# Altium footprint library Nexperia.PcbLib: 4 footprints
Each footprint in its own frame and in the unit in brackets; x right, y up, seen from the top. Pads: shape width x height; smd on the part's side, far side on the other; paste and mask are expansions set on the pad; w line width, h text height; cw(c..) or ccw(c..) is an arc to the next point about the centre after c.
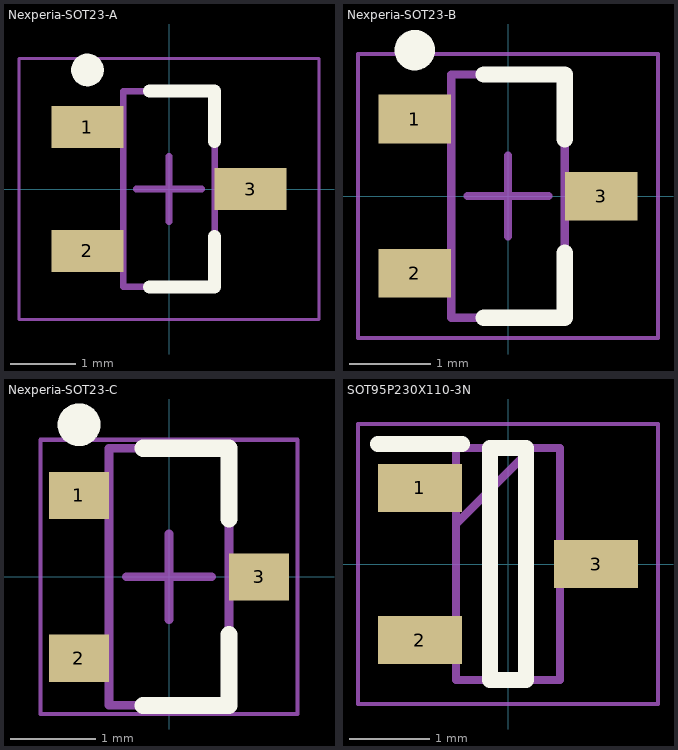
[diagram p0: the footprints below, top view; thin cyan lines are the x and y axes]

## Nexperia-SOT23-A [mm] "SOT23, 3-Leads, Body 2.90x2.30mm, Pitch 0.95mm, IPC Low Density"
height 1.1
pads (3):
  rect 1.1x0.65 smd: 1(-1.25,0.95) 2(-1.25,-0.95) 3(1.25,0)
Top Overlay:
  circle w0.25: c-1.25,1.825 r0.125
  lines w0.2: -0.3,-1.5 0.7,-1.5 0.7,-0.725 ; -0.3,1.5 0.7,1.5 0.7,0.725
Mechanical 13:
  lines w0.1: -0.7,-1.5 0.7,-1.5 0.7,1.5 -0.7,1.5 -0.7,-1.5
Mechanical 15:
  lines w0.05: -2.3,-2 2.3,-2 2.3,2 -2.3,2 -2.3,-2
  lines w0.1: -0.5,0 0.5,0 ; 0,-0.5 0,0.5
3D body "Nexperia-SOT23-A.step": height 1.1, standoff 0, extent -1.3,-1.5 1.3,1.5

## Nexperia-SOT23-B [mm] "SOT23, 3-Leads, Body 2.90x2.30mm, Pitch 0.95mm, IPC Medium Density"
height 1.1
pads (3):
  rect 0.9x0.6 smd: 1(-1.15,0.95) 2(-1.15,-0.95) 3(1.15,0)
Top Overlay:
  circle w0.25: c-1.15,1.8 r0.125
  lines w0.2: -0.3,-1.5 0.7,-1.5 0.7,-0.7 ; -0.3,1.5 0.7,1.5 0.7,0.7
Mechanical 13:
  lines w0.1: -0.7,-1.5 -0.7,1.5 0.7,1.5 0.7,-1.5 -0.7,-1.5
Mechanical 15:
  lines w0.05: -1.85,-1.75 -1.85,1.75 1.85,1.75 1.85,-1.75 -1.85,-1.75
  lines w0.1: -0.5,0 0.5,0 ; 0,-0.5 0,0.5
3D body "Nexperia-SOT23-B.step": height 1.1, standoff 0, extent -1.3,-1.5 1.3,1.5

## Nexperia-SOT23-C [mm] "SOT23, 3-Leads, Body 2.90x2.30mm, Pitch 0.95mm, IPC High Density"
height 1.1
pads (3):
  rect 0.7x0.55 smd: 1(-1.05,0.95) 2(-1.05,-0.95) 3(1.05,0)
Top Overlay:
  circle w0.25: c-1.05,1.775 r0.125
  lines w0.2: -0.3,-1.5 0.7,-1.5 0.7,-0.675 ; -0.3,1.5 0.7,1.5 0.7,0.675
Mechanical 13:
  lines w0.1: -0.7,-1.5 -0.7,1.5 0.7,1.5 0.7,-1.5 -0.7,-1.5
Mechanical 15:
  lines w0.05: -1.5,-1.6 -1.5,1.6 1.5,1.6 1.5,-1.6 -1.5,-1.6
  lines w0.1: -0.5,0 0.5,0 ; 0,-0.5 0,0.5
3D body "Nexperia-SOT23-C.step": height 1.1, standoff 0, extent -1.3,-1.5 1.3,1.5

## SOT95P230X110-3N [mm]
pads (3):
  rect 1.05x0.6 smd: 1(-1.1,0.95) 2(-1.1,-0.95) 3(1.1,0)
Top Overlay:
  lines w0.2: -1.625,1.5 -0.575,1.5 ; -0.225,-1.45 -0.225,1.45 0.225,1.45 0.225,-1.45 -0.225,-1.45
Mechanical 13:
  lines w0.1: -0.65,0.5 0.3,1.45 ; -0.65,-1.45 -0.65,1.45 0.65,1.45 0.65,-1.45 -0.65,-1.45
Mechanical 15:
  lines w0.05: -1.875,-1.75 -1.875,1.75 1.875,1.75 1.875,-1.75 -1.875,-1.75
3D body "BSS138P,215.stp": height 0.95, standoff 0, extent -1.201,-1.448 1.199,1.452